# Altium integrated library 0603L100SLYR.IntLib: 1 symbol
Pins are listed as number, name and electrical type; pins without a type are passive.

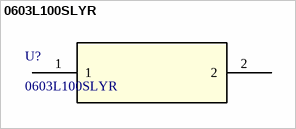
[diagram p0: symbol 0603L100SLYR]

## 0603L100SLYR
designator U?
Description; Manufacturer_Name: Littelfuse Inc; Copyright: Copyright (C) 2025 Ultra Librarian. All rights reserved.; Manufacturer_Part_Number: 0603L100SLYR; RefDes: RefDes; Type: Type
footprint CHIP_ 0603L_1P8X1_LTF
pins: 1, 2